# EAGLE library part APR9600_SOP-28 (library aplus)
SINGLE-CHIP VOICE RECORDING & PLAYBACK DEVICE FOR SINGLE 60 SECOND # Created by SCRIPT exported from Ultra Librarian Gold 5.3.88 Copyright © 1999-2010 # Tanvir Mohammed, Premier Farnell 2013-04-24 alf@cadsoft.de
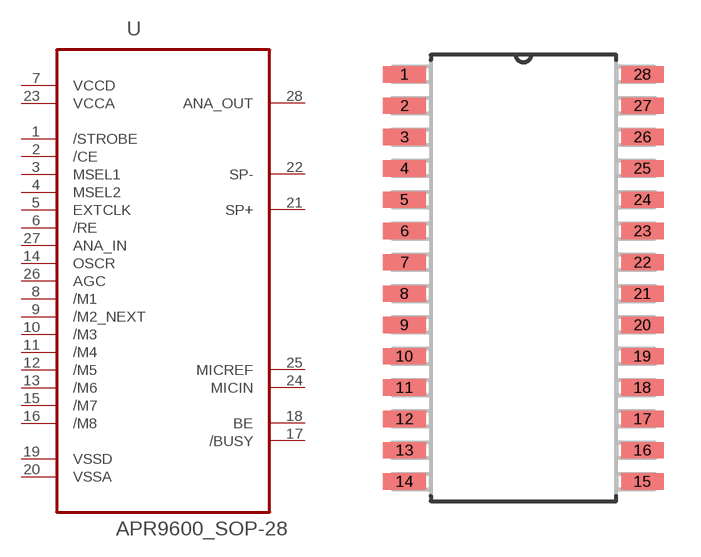
[diagram p0: symbol with the pads of SOP50P1030X264-28N; footprint SOP50P1030X264-28N]

Designator prefix U

## APR9600_SOP-28 (MPN: APR9600_SOP-28; OC_FARNELL: unknown; OC_NEWARK: unknown; PACKAGE: SOP-28; SUPPLIER: APLUS INTEGRATED CIRCUITS INC)  [SOP50P1030X264-28N]
1  /STROBE  in
2  /CE  in
3  MSEL1  in
4  MSEL2  in
5  EXTCLK  in
6  /RE  in
7  VCCD  pwr
8  /M1  in
9  /M2_NEXT  in
10  /M3  in
11  /M4  in
12  /M5  in
13  /M6  in
14  OSCR  in
15  /M7  in
16  /M8  in
17  /BUSY  in
18  BE  in
19  VSSD  pas
20  VSSA  pas
21  SP+  out
22  SP-  out
23  VCCA  pwr
24  MICIN  in
25  MICREF  in
26  AGC  in
27  ANA_IN  in
28  ANA_OUT  out

## Footprint SOP50P1030X264-28N (pad centres in mm)
# Created by Ultra Librarian Gold 5.3.88 Copyright © 1999-2010 # Tanvir Mohammed, Premier Farnell
smd 1.727 x 0.66: 1 -4.826,8.255; 2 -4.826,6.985; 3 -4.826,5.715; 4 -4.826,4.445; 5 -4.826,3.175; 6 -4.826,1.905; 7 -4.826,0.635; 8 -4.826,-0.635; 9 -4.826,-1.905; 10 -4.826,-3.175; 11 -4.826,-4.445; 12 -4.826,-5.715; 13 -4.826,-6.985; 14 -4.826,-8.255; 15 4.826,-8.255; 16 4.826,-6.985; 17 4.826,-5.715; 18 4.826,-4.445; 19 4.826,-3.175; 20 4.826,-1.905; 21 4.826,-0.635; 22 4.826,0.635; 23 4.826,1.905; 24 4.826,3.175; 25 4.826,4.445; 26 4.826,5.715; 27 4.826,6.985; 28 4.826,8.255